# EAGLE library part 500762-0481 (library Jack-connectors)
Molex CMC Saled Header, Right Angle, 48 Circuitts, 2.5 mm, 3.5 mm and 3.7 mm pitch
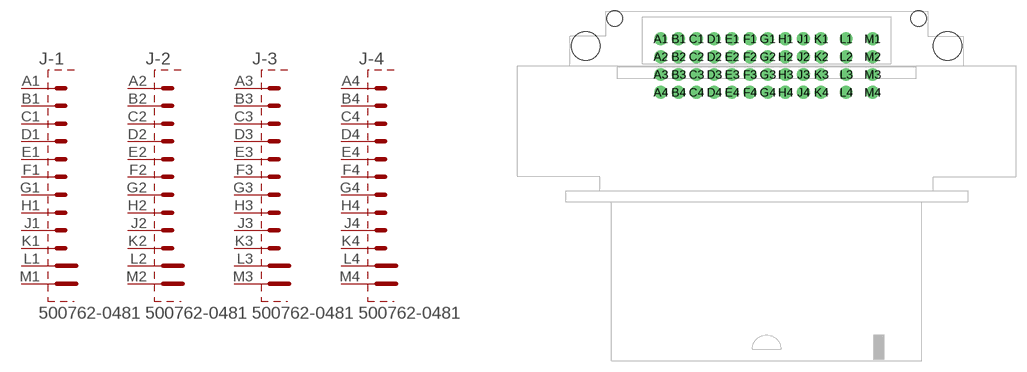
[diagram p23: symbol with the pads of 500762-0481; footprint 500762-0481]

Designator prefix J; gates -1=MOLEX_CMC_48 -2=MOLEX_CMC_48 -3=MOLEX_CMC_48 -4=MOLEX_CMC_48

## 500762-0481 (DESCRIPTION: Molex CMC Saled Header, Right Angle, 48 Circuitts, 2.5 mm, 3.5 mm and 3.7 mm pitch; PACK: 500762-0481)  [500762-0481]
A1  -1:A  pas
A2  -2:A  pas
A3  -3:A  pas
A4  -4:A  pas
B1  -1:B  pas
B2  -2:B  pas
B3  -3:B  pas
B4  -4:B  pas
C1  -1:C  pas
C2  -2:C  pas
C3  -3:C  pas
C4  -4:C  pas
D1  -1:D  pas
D2  -2:D  pas
D3  -3:D  pas
D4  -4:D  pas
E1  -1:E  pas
E2  -2:E  pas
E3  -3:E  pas
E4  -4:E  pas
F1  -1:F  pas
F2  -2:F  pas
F3  -3:F  pas
F4  -4:F  pas
G1  -1:G  pas
G2  -2:G  pas
G3  -3:G  pas
G4  -4:G  pas
H1  -1:H  pas
H2  -2:H  pas
H3  -3:H  pas
H4  -4:H  pas
J1  -1:J  pas
J2  -2:J  pas
J3  -3:J  pas
J4  -4:J  pas
K1  -1:K  pas
K2  -2:K  pas
K3  -3:K  pas
K4  -4:K  pas
L1  -1:L  pas
L2  -2:L  pas
L3  -3:L  pas
L4  -4:L  pas
M1  -1:M  pas
M2  -2:M  pas
M3  -3:M  pas
M4  -4:M  pas

## Footprint 500762-0481 (pad centres in mm)
drill 1.2: A1 -14.85,1; A2 -14.85,-1.5; A3 -14.85,-4; A4 -14.85,-6.5; B1 -12.35,1; B2 -12.35,-1.5; B3 -12.35,-4; B4 -12.35,-6.5; C1 -9.85,1; C2 -9.85,-1.5; C3 -9.85,-4; C4 -9.85,-6.5; D1 -7.35,1; D2 -7.35,-1.5; D3 -7.35,-4; D4 -7.35,-6.5; E1 -4.85,1; E2 -4.85,-1.5; E3 -4.85,-4; E4 -4.85,-6.5; F1 -2.35,1; F2 -2.35,-1.5; F3 -2.35,-4; F4 -2.35,-6.5; G1 0.15,1; G2 0.15,-1.5; G3 0.15,-4; G4 0.15,-6.5; H1 2.65,1; H2 2.65,-1.5; H3 2.65,-4; H4 2.65,-6.5; J1 5.15,1; J2 5.15,-1.5; J3 5.15,-4; J4 5.15,-6.5; K1 7.65,1; K2 7.65,-1.5; K3 7.65,-4; K4 7.65,-6.5; L1 11.15,1; L2 11.15,-1.5; L3 11.15,-4; L4 11.15,-6.5; M1 14.85,1; M2 14.85,-1.5; M3 14.85,-4; M4 14.85,-6.5
hole 4 at 25.4,0
hole 4 at -25.4,0
hole 2.2 at 21.3,3.85
hole 2.2 at -21.3,3.85